# EAGLE library part XX-13700 (library LITTLEBITS140826)
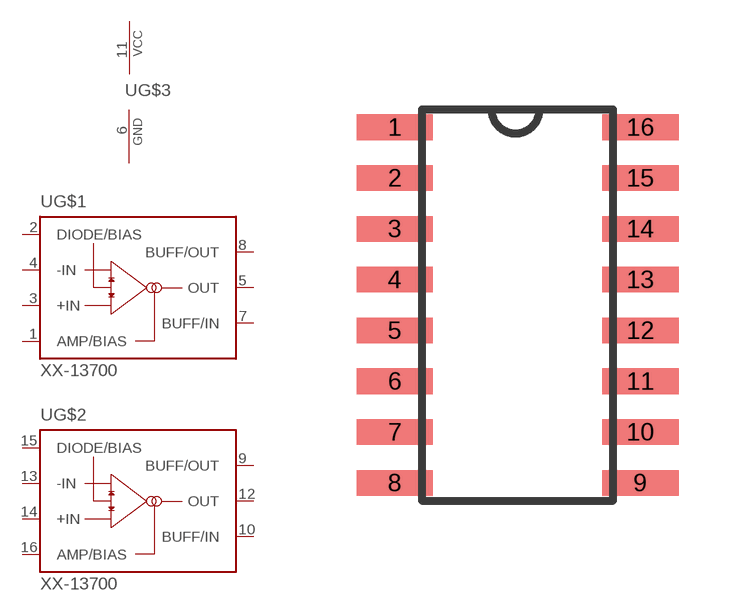
[diagram p46: symbol with the pads of DMP16; footprint DMP16]

Designator prefix -; gates G$1=OTA G$2=OTA G$3=PWRN

## XX-13700DMP16  [DMP16]
1  G$1:AMP/BIAS  pas
2  G$1:DIODE/BIAS  pas
3  G$1:+IN  in
4  G$1:-IN  in
5  G$1:OUT  out
6  G$3:GND  pwr
7  G$1:BUFF/IN  in
8  G$1:BUFF/OUT  out
9  G$2:BUFF/OUT  out
10  G$2:BUFF/IN  in
11  G$3:VCC  pwr
12  G$2:OUT  out
13  G$2:-IN  in
14  G$2:+IN  in
15  G$2:DIODE/BIAS  pas
16  G$2:AMP/BIAS  pas

## Footprint DMP16 (pad centres in mm)
smd 1.91 x 0.64: 1 -6.47,9.145; 2 -6.47,7.875; 3 -6.47,6.605; 4 -6.47,5.335; 5 -6.47,4.065; 6 -6.47,2.795; 7 -6.47,1.525; 8 -6.47,0.255; 9 -0.33,0.255; 10 -0.33,1.525; 11 -0.33,2.795; 12 -0.33,4.065; 13 -0.33,5.335; 14 -0.33,6.605; 15 -0.33,7.875; 16 -0.33,9.145